# Altium integrated library NSC Switcher.IntLib: 889 symbols (part 17 of 23)
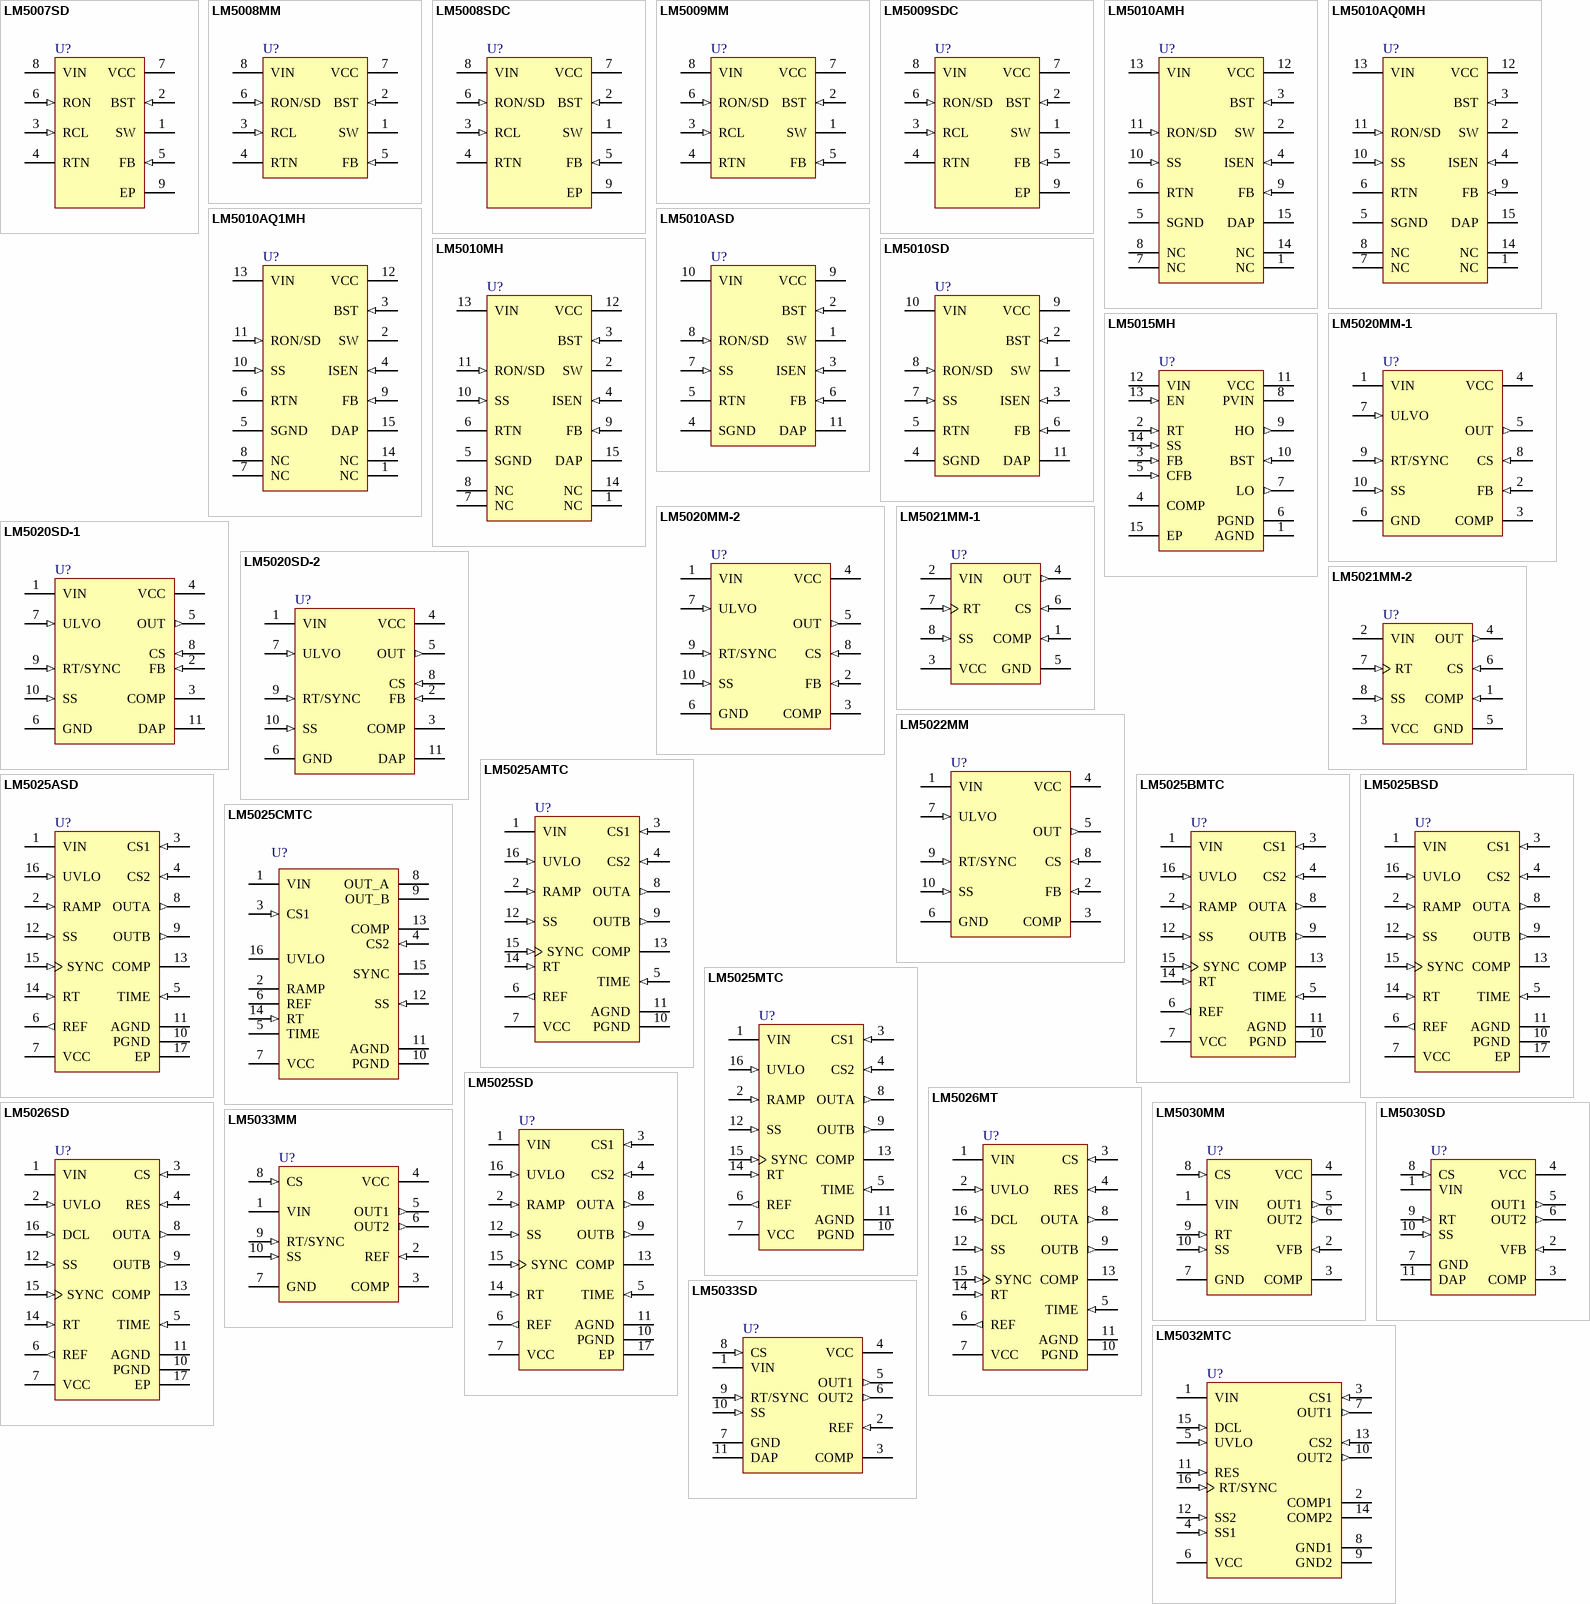
[diagram p43: symbols LM5007SD to LM5033SD]

## LM5010AMH
designator U?
High Voltage 1A Step Down Switching Regulator; PartNumber: LM5010AMH; Manufacturer: National Semiconductor; CompType: Switcher; PackageTopMarking: NSUZXYTT*L5010*AMH; Published: 4-Dec-2008; DatasheetVersion: Dec-2008; PackageVersion: revA, Feb-2003; PackageReference: MXA14A; Publisher: Altium Limited; PackageDescription: Molded TSSOP, JEDEC, Exposed Pad, 5.0 x 4.4 x 0.9mm Body, 14 Lead, 0.65mm Pitch; RoHS: Y; PinCount: 14; DigiKeyPartNumber: LM5010AMH-ND; Code_JEDEC: MO-153-ABT-1; ComponentLink1Description: LM5010A Datasheet; ComponentLink1URL: http://www.national.com/ds/LM/LM5010A.pdf; ComponentLink2Description: LM5010A Web Page; ComponentLink2URL: http://www.national.com/pf/LM/LM5010A.html; ComponentLink3Description: MXA14A Package Drawing; ComponentLink3URL: http://www.national.com/packaging/folders/mxa14a.html
footprint MXA14A_N (TSOP, 14-Leads, Body 5x4.4mm, Pitch 0.65mm, Exposed Pad, IPC Medium Density)
footprint MXA14A_L (TSOP, 14-Leads, Body 5x4.4mm, Pitch 0.65mm, Exposed Pad, IPC High Density)
footprint MXA14A_M (TSOP, 14-Leads, Body 5x4.4mm, Pitch 0.65mm, Exposed Pad, IPC Low Density)
pins: 1 NC, 2 SW (power), 3 BST (in), 4 ISEN (in), 5 SGND (power), 6 RTN (power), 7 NC, 8 NC, 9 FB (in), 10 SS (in), 11 RON/SD (in), 12 VCC (power), 13 VIN (power), 14 NC, 15 DAP (power)

## LM5010AQ0MH
designator U?
High Voltage 1A Step Down Switching Regulator; PartNumber: LM5010AQ0MH; Manufacturer: National Semiconductor; CompType: Switcher; PackageTopMarking: NSUZXYTT*L5010A*Q0MH; PowerWise: N; Published: 29-May-2009; DatasheetVersion: Dec-2008; PackageVersion: revA, Feb-2003; PackageReference: MXA14A; Publisher: Altium Limited; PackageDescription: Molded TSSOP, JEDEC, Exposed Pad, 5.0 x 4.4 x 0.9mm Body, 14 Lead, 0.65mm Pitch; RoHS: Y; PinCount: 14; DigiKeyPartNumber: LM5010AQ0MH-ND; Code_JEDEC: MO-153-ABT-1; ComponentLink1Description: LM5010A Datasheet; ComponentLink1URL: http://www.national.com/ds/LM/LM5010A.pdf; ComponentLink2Description: LM5010A Web Page; ComponentLink2URL: http://www.national.com/pf/LM/LM5010A.html; ComponentLink3Description: MXA14A Package Page; ComponentLink3URL: http://www.national.com/packaging/folders/mxa14a.html
footprint MXA14A_N (TSOP, 14-Leads, Body 5x4.4mm, Pitch 0.65mm, Exposed Pad, IPC Medium Density)
footprint MXA14A_L (TSOP, 14-Leads, Body 5x4.4mm, Pitch 0.65mm, Exposed Pad, IPC High Density)
footprint MXA14A_M (TSOP, 14-Leads, Body 5x4.4mm, Pitch 0.65mm, Exposed Pad, IPC Low Density)
pins: 1 NC, 2 SW (power), 3 BST (in), 4 ISEN (in), 5 SGND (power), 6 RTN (power), 7 NC, 8 NC, 9 FB (in), 10 SS (in), 11 RON/SD (in), 12 VCC (power), 13 VIN (power), 14 NC, 15 DAP (power)

## LM5010AQ1MH
designator U?
High Voltage 1A Step Down Switching Regulator; PartNumber: LM5010AQ1MH; Manufacturer: National Semiconductor; CompType: Switcher; PackageTopMarking: NSUZXYTT*L5010A*Q1MH; PowerWise: N; Published: 29-May-2009; DatasheetVersion: Dec-2008; PackageVersion: revA, Feb-2003; PackageReference: MXA14A; Publisher: Altium Limited; PackageDescription: Molded TSSOP, JEDEC, Exposed Pad, 5.0 x 4.4 x 0.9mm Body, 14 Lead, 0.65mm Pitch; RoHS: Y; PinCount: 14; DigiKeyPartNumber: LM5010AQ1MH-ND; Code_JEDEC: MO-153-ABT-1; ComponentLink1Description: LM5010A Datasheet; ComponentLink1URL: http://www.national.com/ds/LM/LM5010A.pdf; ComponentLink2Description: LM5010A Web Page; ComponentLink2URL: http://www.national.com/pf/LM/LM5010A.html; ComponentLink3Description: MXA14A Package Page; ComponentLink3URL: http://www.national.com/packaging/folders/mxa14a.html
footprint MXA14A_N (TSOP, 14-Leads, Body 5x4.4mm, Pitch 0.65mm, Exposed Pad, IPC Medium Density)
footprint MXA14A_L (TSOP, 14-Leads, Body 5x4.4mm, Pitch 0.65mm, Exposed Pad, IPC High Density)
footprint MXA14A_M (TSOP, 14-Leads, Body 5x4.4mm, Pitch 0.65mm, Exposed Pad, IPC Low Density)
pins: 1 NC, 2 SW (power), 3 BST (in), 4 ISEN (in), 5 SGND (power), 6 RTN (power), 7 NC, 8 NC, 9 FB (in), 10 SS (in), 11 RON/SD (in), 12 VCC (power), 13 VIN (power), 14 NC, 15 DAP (power)

## LM5010ASD
designator U?
High Voltage 1A Step Down Switching Regulator; PartNumber: LM5010ASD; Manufacturer: National Semiconductor; CompType: Switcher; PackageTopMarking: NS*UZXYTT*L00065B; Published: 4-Dec-2008; DatasheetVersion: Dec-2008; PackageVersion: revA, May-2003; PackageReference: SDC10A; Publisher: Altium Limited; PackageDescription: LLP, Plastic, Dual, 4 x 4 x 0.8mm Body, 10 Lead, 0.8mm Pitch, No Pullback; RoHS: O; PinCount: 10; DigiKeyPartNumber: LM5010ASDCT-ND; ComponentLink1Description: LM5010A Datasheet; ComponentLink1URL: http://www.national.com/ds/LM/LM5010A.pdf; ComponentLink2Description: LM5010A Web Page; ComponentLink2URL: http://www.national.com/pf/LM/LM5010A.html; ComponentLink3Description: SDC10A Package Drawing; ComponentLink3URL: http://www.national.com/packaging/folders/sdc10a.html
footprint SDC10A (SON, 10-Leads, Body 4x4 mm, Pitch 0.8mm, NSC Recommended)
pins: 1 SW (power), 2 BST (in), 3 ISEN (in), 4 SGND (power), 5 RTN (power), 6 FB (in), 7 SS (in), 8 RON/SD (in), 9 VCC (power), 10 VIN (power), 11 DAP (power)

## LM5010MH
designator U?
High Voltage 1A Step Down Switching Regulator; PartNumber: LM5010MH; Manufacturer: National Semiconductor; CompType: Switcher; PackageTopMarking: NSUZXYTT*L5010*MH; Published: 4-Dec-2008; DatasheetVersion: Feb-2008; PackageVersion: revA, Feb-2003; PackageReference: MXA14A; Publisher: Altium Limited; PackageDescription: Molded TSSOP, JEDEC, Exposed Pad, 5.0 x 4.4 x 0.9mm Body, 14 Lead, 0.65mm Pitch; RoHS: Y; PinCount: 14; DigiKeyPartNumber: LM5010MH-ND; Code_JEDEC: MO-153-ABT-1; ComponentLink1Description: LM5010 Datasheet; ComponentLink1URL: http://www.national.com/ds/LM/LM5010.pdf; ComponentLink2Description: LM5010 Web Page; ComponentLink2URL: http://www.national.com/pf/LM/LM5010.html; ComponentLink3Description: MXA14A Package Drawing; ComponentLink3URL: http://www.national.com/packaging/folders/mxa14a.html
footprint MXA14A_N (TSOP, 14-Leads, Body 5x4.4mm, Pitch 0.65mm, Exposed Pad, IPC Medium Density)
footprint MXA14A_L (TSOP, 14-Leads, Body 5x4.4mm, Pitch 0.65mm, Exposed Pad, IPC High Density)
footprint MXA14A_M (TSOP, 14-Leads, Body 5x4.4mm, Pitch 0.65mm, Exposed Pad, IPC Low Density)
pins: 1 NC, 2 SW (power), 3 BST (in), 4 ISEN (in), 5 SGND (power), 6 RTN (power), 7 NC, 8 NC, 9 FB (in), 10 SS (in), 11 RON/SD (in), 12 VCC (power), 13 VIN (power), 14 NC, 15 DAP (power)

## LM5010SD
designator U?
High Voltage 1A Step Down Switching Regulator; PartNumber: LM5010SD; Manufacturer: National Semiconductor; CompType: Switcher; PackageTopMarking: NS*UZXYTT*L00057B; Published: 4-Dec-2008; DatasheetVersion: Feb-2008; PackageVersion: revA, May-2003; PackageReference: SDC10A; Publisher: Altium Limited; PackageDescription: LLP, Plastic, Dual, 4 x 4 x 0.8mm Body, 10 Lead, 0.8mm Pitch, No Pullback; RoHS: O; PinCount: 10; DigiKeyPartNumber: LM5010SDCT-ND; ComponentLink1Description: LM5010 Datasheet; ComponentLink1URL: http://www.national.com/ds/LM/LM5010.pdf; ComponentLink2Description: LM5010 Web Page; ComponentLink2URL: http://www.national.com/pf/LM/LM5010.html; ComponentLink3Description: SDC10A Package Drawing; ComponentLink3URL: http://www.national.com/packaging/folders/sdc10a.html
footprint SDC10A (SON, 10-Leads, Body 4x4 mm, Pitch 0.8mm, NSC Recommended)
pins: 1 SW (power), 2 BST (in), 3 ISEN (in), 4 SGND (power), 5 RTN (power), 6 FB (in), 7 SS (in), 8 RON/SD (in), 9 VCC (power), 10 VIN (power), 11 DAP (power)

## LM5015MH
designator U?
High Voltage Monolithic Two-Switch Forward DC-DC Regulator; PartNumber: LM5015MH; Manufacturer: National Semiconductor; CompType: Switcher; PackageTopMarking: NSUZXYTT*LM5015*MH; Published: 4-Dec-2008; DatasheetVersion: Dec-2007; PackageVersion: revA, Feb-2003; PackageReference: MXA14A; Publisher: Altium Limited; PackageDescription: Molded TSSOP, JEDEC, Exposed Pad, 5.0 x 4.4 x 0.9mm Body, 14 Lead, 0.65mm Pitch; RoHS: Y; PinCount: 14; DigiKeyPartNumber: LM5015MH-ND; Code_JEDEC: MO-153-ABT-1; ComponentLink1Description: LM5015 Datasheet; ComponentLink1URL: http://www.national.com/ds/LM/LM5015.pdf; ComponentLink2Description: LM5015 Web Page; ComponentLink2URL: http://www.national.com/pf/LM/LM5015.html; ComponentLink3Description: MXA14A Package Drawing; ComponentLink3URL: http://www.national.com/packaging/folders/mxa14a.html
footprint MXA14A_N (TSOP, 14-Leads, Body 5x4.4mm, Pitch 0.65mm, Exposed Pad, IPC Medium Density)
footprint MXA14A_L (TSOP, 14-Leads, Body 5x4.4mm, Pitch 0.65mm, Exposed Pad, IPC High Density)
footprint MXA14A_M (TSOP, 14-Leads, Body 5x4.4mm, Pitch 0.65mm, Exposed Pad, IPC Low Density)
pins: 1 AGND (power), 2 RT (in), 3 FB (in), 4 COMP, 5 CFB (in), 6 PGND (power), 7 LO (out), 8 PVIN (power), 9 HO (out), 10 BST (in), 11 VCC (power), 12 VIN (power), 13 EN (in), 14 SS (in), 15 EP (power)

## LM5020MM-1
designator U?
100V Current Mode PWM Controller; PartNumber: LM5020MM-1; Manufacturer: National Semiconductor; CompType: Switcher; PackageTopMarking: ZXTT*SBLB; Published: 4-Dec-2008; DatasheetVersion: Apr-2006; PackageVersion: revB, Jul-2003; PackageReference: MUB10A; Publisher: Altium Limited; PackageDescription: Mini-SO, Molded, .118 x .118 x .034in Body, 10 Lead, .0197in Pitch; RoHS: O; PinCount: 10; DigiKeyPartNumber: LM5020MM-1CT-ND; Code_JEDEC: MO-187-BA; ComponentLink1Description: LM5020 Datasheet; ComponentLink1URL: http://www.national.com/ds/LM/LM5020.pdf; ComponentLink2Description: LM5020 Web Page; ComponentLink2URL: http://www.national.com/pf/LM/LM5020.html; ComponentLink3Description: MUB10A Package Drawing; ComponentLink3URL: http://www.national.com/packaging/folders/mub10a.html
footprint MUB10A_N (TSSOP, 10-Leads, Body 3x3mm, Pitch 0.5mm, IPC Medium Density)
footprint MUB10A_L (TSSOP, 10-Leads, Body 3x3mm, Pitch 0.5mm, IPC High Density)
footprint MUB10A_M (TSSOP, 10-Leads, Body 3x3mm, Pitch 0.5mm, IPC Low Density)
pins: 1 VIN (power), 2 FB (in), 3 COMP, 4 VCC (power), 5 OUT (out), 6 GND (power), 7 ULVO (in), 8 CS (in), 9 RT/SYNC (in), 10 SS (in)

## LM5020MM-2
designator U?
100V Current Mode PWM Controller; PartNumber: LM5020MM-2; Manufacturer: National Semiconductor; CompType: Switcher; PackageTopMarking: ZXTT*SBNB; Published: 4-Dec-2008; DatasheetVersion: Apr-2006; PackageVersion: revB, Jul-2003; PackageReference: MUB10A; Publisher: Altium Limited; PackageDescription: Mini-SO, Molded, .118 x .118 x .034in Body, 10 Lead, .0197in Pitch; RoHS: O; PinCount: 10; DigiKeyPartNumber: LM5020MM-2CT-ND; Code_JEDEC: MO-187-BA; ComponentLink1Description: LM5020 Datasheet; ComponentLink1URL: http://www.national.com/ds/LM/LM5020.pdf; ComponentLink2Description: LM5020 Web Page; ComponentLink2URL: http://www.national.com/pf/LM/LM5020.html; ComponentLink3Description: MUB10A Package Drawing; ComponentLink3URL: http://www.national.com/packaging/folders/mub10a.html
footprint MUB10A_N (TSSOP, 10-Leads, Body 3x3mm, Pitch 0.5mm, IPC Medium Density)
footprint MUB10A_L (TSSOP, 10-Leads, Body 3x3mm, Pitch 0.5mm, IPC High Density)
footprint MUB10A_M (TSSOP, 10-Leads, Body 3x3mm, Pitch 0.5mm, IPC Low Density)
pins: 1 VIN (power), 2 FB (in), 3 COMP, 4 VCC (power), 5 OUT (out), 6 GND (power), 7 ULVO (in), 8 CS (in), 9 RT/SYNC (in), 10 SS (in)

## LM5020SD-1
designator U?
100V Current Mode PWM Controller; PartNumber: LM5020SD-1; Manufacturer: National Semiconductor; CompType: Switcher; PackageTopMarking: NS*UZXYTT*5020-1; Published: 4-Dec-2008; DatasheetVersion: Apr-2006; PackageVersion: revA, May-2003; PackageReference: SDC10A; Publisher: Altium Limited; PackageDescription: LLP, Plastic, Dual, 4 x 4 x 0.8mm Body, 10 Lead, 0.8mm Pitch, No Pullback; RoHS: Y; PinCount: 10; DigiKeyPartNumber: LM5020SD-1CT-ND; ComponentLink1Description: LM5020 Datasheet; ComponentLink1URL: http://www.national.com/ds/LM/LM5020.pdf; ComponentLink2Description: LM5020 Web Page; ComponentLink2URL: http://www.national.com/pf/LM/LM5020.html; ComponentLink3Description: SDC10A Package Drawing; ComponentLink3URL: http://www.national.com/packaging/folders/sdc10a.html
footprint SDC10A (SON, 10-Leads, Body 4x4 mm, Pitch 0.8mm, NSC Recommended)
pins: 1 VIN (power), 2 FB (in), 3 COMP, 4 VCC (power), 5 OUT (out), 6 GND (power), 7 ULVO (in), 8 CS (in), 9 RT/SYNC (in), 10 SS (in), 11 DAP (power)

## LM5020SD-2
designator U?
100V Current Mode PWM Controller; PartNumber: LM5020SD-2; Manufacturer: National Semiconductor; CompType: Switcher; PackageTopMarking: NS*UZXYTT*5020-2; Published: 4-Dec-2008; DatasheetVersion: Apr-2006; PackageVersion: revA, May-2003; PackageReference: SDC10A; Publisher: Altium Limited; PackageDescription: LLP, Plastic, Dual, 4 x 4 x 0.8mm Body, 10 Lead, 0.8mm Pitch, No Pullback; RoHS: Y; PinCount: 10; DigiKeyPartNumber: LM5020SD-2CT-ND; ComponentLink1Description: LM5020 Datasheet; ComponentLink1URL: http://www.national.com/ds/LM/LM5020.pdf; ComponentLink2Description: LM5020 Web Page; ComponentLink2URL: http://www.national.com/pf/LM/LM5020.html; ComponentLink3Description: SDC10A Package Drawing; ComponentLink3URL: http://www.national.com/packaging/folders/sdc10a.html
footprint SDC10A (SON, 10-Leads, Body 4x4 mm, Pitch 0.8mm, NSC Recommended)
pins: 1 VIN (power), 2 FB (in), 3 COMP, 4 VCC (power), 5 OUT (out), 6 GND (power), 7 ULVO (in), 8 CS (in), 9 RT/SYNC (in), 10 SS (in), 11 DAP (power)

## LM5021MM-1
designator U?
AC-DC Current Mode PWM Controller; PartNumber: LM5021MM-1; Manufacturer: National Semiconductor; CompType: Switcher; PackageTopMarking: ZXTT*21-1; Published: 4-Dec-2008; DatasheetVersion: Jun-2006; PackageVersion: revF, Apr-2008; PackageReference: MUA08A; Publisher: Altium Limited; PackageDescription: MINI SOIC, .118 x .118 x .034in, 8 Lead, .0256in Pitch; RoHS: Y; PinCount: 8; DigiKeyPartNumber: LM5021MM-1CT-ND; Code_JEDEC: MO-187-AA; ComponentLink1Description: LM5021 Datasheet; ComponentLink1URL: http://www.national.com/ds/LM/LM5021.pdf; ComponentLink2Description: LM5021 Web Page; ComponentLink2URL: http://www.national.com/pf/LM/LM5021.html; ComponentLink3Description: MUA08A Package Drawing; ComponentLink3URL: http://www.national.com/packaging/folders/mua08a.html
footprint MUA08A_N (TSOP, 8-Leads, Body 3x3mm, Pitch 0.65mm, IPC Medium Density)
footprint MUA08A_L (TSOP, 8-Leads, Body 3x3mm, Pitch 0.65mm, IPC High Density)
footprint MUA08A_M (TSOP, 8-Leads, Body 3x3mm, Pitch 0.65mm, IPC Low Density)
pins: 1 COMP (in), 2 VIN (power), 3 VCC (power), 4 OUT (out), 5 GND (power), 6 CS (in), 7 RT (in), 8 SS (in)

## LM5021MM-2
designator U?
AC-DC Current Mode PWM Controller; PartNumber: LM5021MM-2; Manufacturer: National Semiconductor; CompType: Switcher; PackageTopMarking: ZXTT*21-2; Published: 4-Dec-2008; DatasheetVersion: Jun-2006; PackageVersion: revF, Apr-2008; PackageReference: MUA08A; Publisher: Altium Limited; PackageDescription: MINI SOIC, .118 x .118 x .034in, 8 Lead, .0256in Pitch; RoHS: Y; PinCount: 8; DigiKeyPartNumber: LM5021MM-2CT-ND; Code_JEDEC: MO-187-AA; ComponentLink1Description: LM5021 Datasheet; ComponentLink1URL: http://www.national.com/ds/LM/LM5021.pdf; ComponentLink2Description: LM5021 Web Page; ComponentLink2URL: http://www.national.com/pf/LM/LM5021.html; ComponentLink3Description: MUA08A Package Drawing; ComponentLink3URL: http://www.national.com/packaging/folders/mua08a.html
footprint MUA08A_N (TSOP, 8-Leads, Body 3x3mm, Pitch 0.65mm, IPC Medium Density)
footprint MUA08A_L (TSOP, 8-Leads, Body 3x3mm, Pitch 0.65mm, IPC High Density)
footprint MUA08A_M (TSOP, 8-Leads, Body 3x3mm, Pitch 0.65mm, IPC Low Density)
pins: 1 COMP (in), 2 VIN (power), 3 VCC (power), 4 OUT (out), 5 GND (power), 6 CS (in), 7 RT (in), 8 SS (in)

## LM5022MM
designator U?
60V Low Side  Controller for Boost and SEPIC; PartNumber: LM5022MM; Manufacturer: National Semiconductor; CompType: Switcher; PackageTopMarking: ZXTT*5022; Published: 4-Dec-2008; DatasheetVersion: Aug-2007; PackageVersion: revB, Jul-2003; PackageReference: MUB10A; Publisher: Altium Limited; PackageDescription: Mini-SO, Molded, .118 x .118 x .034in Body, 10 Lead, .0197in Pitch; RoHS: O; PinCount: 10; DigiKeyPartNumber: LM5022MMCT-ND; Code_JEDEC: MO-187-BA; ComponentLink1Description: LM5022 Datasheet; ComponentLink1URL: http://www.national.com/ds/LM/LM5022.pdf; ComponentLink2Description: LM5022 Web Page; ComponentLink2URL: http://www.national.com/pf/LM/LM5022.html; ComponentLink3Description: MUB10A Package Drawing; ComponentLink3URL: http://www.national.com/packaging/folders/mub10a.html
footprint MUB10A_N (TSSOP, 10-Leads, Body 3x3mm, Pitch 0.5mm, IPC Medium Density)
footprint MUB10A_L (TSSOP, 10-Leads, Body 3x3mm, Pitch 0.5mm, IPC High Density)
footprint MUB10A_M (TSSOP, 10-Leads, Body 3x3mm, Pitch 0.5mm, IPC Low Density)
pins: 1 VIN (power), 2 FB (in), 3 COMP, 4 VCC (power), 5 OUT (out), 6 GND (power), 7 ULVO (in), 8 CS (in), 9 RT/SYNC (in), 10 SS (in)

## LM5025AMTC
designator U?
Active Clamp Voltage Mode PWM Controller; PartNumber: LM5025AMTC; Manufacturer: National Semiconductor; CompType: Switcher; PackageTopMarking: NSUZXYTT*L5025A*MTC; Published: 4-Dec-2008; DatasheetVersion: Dec-2004; PackageVersion: revD, Jun-2003; PackageReference: MTC16; Publisher: Altium Limited; PackageDescription: Molded TSSOP, Jedec, 5 x 4.4 x 0.9mm Body, 16 Lead, 0.65mm Pitch; RoHS: Y; PinCount: 16; DigiKeyPartNumber: LM5025AMTC-ND; Code_JEDEC: MO-153-AB; ComponentLink1Description: LM5025A Datasheet; ComponentLink1URL: http://www.national.com/ds/LM/LM5025A.pdf; ComponentLink2Description: LM5025A Web Page; ComponentLink2URL: http://www.national.com/pf/LM/LM5025A.html; ComponentLink3Description: MTC16 Package Drawing; ComponentLink3URL: http://www.national.com/packaging/folders/mtc16.html
footprint MTC16_N (TSOP, 16-Leads, Body 5x4.4mm, Pitch 0.65mm, IPC Medium Density)
footprint MTC16_L (TSOP, 16-Leads, Body 5x4.4mm, Pitch 0.65mm, IPC High Density)
footprint MTC16_M (TSOP, 16-Leads, Body 5x4.4mm, Pitch 0.65mm, IPC Low Density)
pins: 1 VIN (power), 2 RAMP (in), 3 CS1 (in), 4 CS2 (in), 5 TIME (in), 6 REF (out), 7 VCC (power), 8 OUTA (out), 9 OUTB (out), 10 PGND (power), 11 AGND (power), 12 SS (in), 13 COMP, 14 RT (in), 15 SYNC (in), 16 UVLO (in)

## LM5025ASD
designator U?
Active Clamp Voltage Mode PWM Controller; PartNumber: LM5025ASD; Manufacturer: National Semiconductor; CompType: Switcher; PackageTopMarking: NS*UZXYTT*5025ASD; Published: 4-Dec-2008; DatasheetVersion: Dec-2004; PackageVersion: revA, May-2003; PackageReference: SDA16A; Publisher: Altium Limited; PackageDescription: LLP, Plastic, Dual, 5 x 5 x 0.8mm Body,16 Lead, 0.5mm Pitch, No Pullback; RoHS: Y; PinCount: 16; DigiKeyPartNumber: LM5025ASDCT-ND; ComponentLink1Description: LM5025A Datasheet; ComponentLink1URL: http://www.national.com/ds/LM/LM5025A.pdf; ComponentLink2Description: LM5025A Web Page; ComponentLink2URL: http://www.national.com/pf/LM/LM5025A.html; ComponentLink3Description: SDA16A Package Drawing; ComponentLink3URL: http://www.national.com/packaging/folders/sda16a.html
footprint SDA16A (SON, 16-Leads, Body 5x5mm, Pitch 0.5mm, NSC Recommended)
pins: 1 VIN (power), 2 RAMP (in), 3 CS1 (in), 4 CS2 (in), 5 TIME (in), 6 REF (out), 7 VCC (power), 8 OUTA (out), 9 OUTB (out), 10 PGND (power), 11 AGND (power), 12 SS (in), 13 COMP, 14 RT (in), 15 SYNC (in), 16 UVLO (in), 17 EP (power)

## LM5025BMTC
designator U?
Active Clamp Voltage Mode PWM Controller; PartNumber: LM5025BMTC; Manufacturer: National Semiconductor; CompType: Switcher; PackageTopMarking: NSUZXYTT*L5025B*MTC; Published: 4-Dec-2008; DatasheetVersion: Mar-2006; PackageVersion: revD, Jun-2003; PackageReference: MTC16; Publisher: Altium Limited; PackageDescription: Molded TSSOP, Jedec, 5 x 4.4 x 0.9mm Body, 16 Lead, 0.65mm Pitch; RoHS: Y; PinCount: 16; DigiKeyPartNumber: LM5025BMTC-ND; Code_JEDEC: MO-153-AB; ComponentLink1Description: LM5025B Datasheet; ComponentLink1URL: http://www.national.com/ds/LM/LM5025B.pdf; ComponentLink2Description: LM5025B Web Page; ComponentLink2URL: http://www.national.com/pf/LM/LM5025B.html; ComponentLink3Description: MTC16 Package Drawing; ComponentLink3URL: http://www.national.com/packaging/folders/mtc16.html
footprint MTC16_N (TSOP, 16-Leads, Body 5x4.4mm, Pitch 0.65mm, IPC Medium Density)
footprint MTC16_L (TSOP, 16-Leads, Body 5x4.4mm, Pitch 0.65mm, IPC High Density)
footprint MTC16_M (TSOP, 16-Leads, Body 5x4.4mm, Pitch 0.65mm, IPC Low Density)
pins: 1 VIN (power), 2 RAMP (in), 3 CS1 (in), 4 CS2 (in), 5 TIME (in), 6 REF (out), 7 VCC (power), 8 OUTA (out), 9 OUTB (out), 10 PGND (power), 11 AGND (power), 12 SS (in), 13 COMP, 14 RT (in), 15 SYNC (in), 16 UVLO (in)

## LM5025BSD
designator U?
Active Clamp Voltage Mode PWM Controller; PartNumber: LM5025BSD; Manufacturer: National Semiconductor; CompType: Switcher; PackageTopMarking: NS*UZXYTT*5025BSD; Published: 4-Dec-2008; DatasheetVersion: Mar-2006; PackageVersion: revA, May-2003; PackageReference: SDA16A; Publisher: Altium Limited; PackageDescription: LLP, Plastic, Dual, 5 x 5 x 0.8mm Body,16 Lead, 0.5mm Pitch, No Pullback; RoHS: O; PinCount: 16; DigiKeyPartNumber: LM5025BSDCT-ND; ComponentLink1Description: LM5025B Datasheet; ComponentLink1URL: http://www.national.com/ds/LM/LM5025B.pdf; ComponentLink2Description: LM5025B Web Page; ComponentLink2URL: http://www.national.com/pf/LM/LM5025B.html; ComponentLink3Description: SDA16A Package Drawing; ComponentLink3URL: http://www.national.com/packaging/folders/sda16a.html
footprint SDA16A (SON, 16-Leads, Body 5x5mm, Pitch 0.5mm, NSC Recommended)
pins: 1 VIN (power), 2 RAMP (in), 3 CS1 (in), 4 CS2 (in), 5 TIME (in), 6 REF (out), 7 VCC (power), 8 OUTA (out), 9 OUTB (out), 10 PGND (power), 11 AGND (power), 12 SS (in), 13 COMP, 14 RT (in), 15 SYNC (in), 16 UVLO (in), 17 EP (power)

## LM5025CMTC
designator U?
Active Clamp Voltage Mode PWM Controller; PartNumber: LM5025CMTC; Manufacturer: National Semiconductor; CompType: Switcher; PackageTopMarking: NSUZXYTT*L5025C*MTC; PowerWise: Y; Published: 4-Dec-2008; DatasheetVersion: Sep-2008; PackageVersion: revD, Jun-2003; PackageReference: MTC16; Publisher: Altium Limited; PackageDescription: Molded TSSOP, Jedec, 5 x 4.4 x 0.9mm Body, 16 Lead, 0.65mm Pitch; RoHS: Y; PinCount: 16; Code_JEDEC: MO-153-AB; ComponentLink1Description: LM5025C Datasheet; ComponentLink1URL: http://www.national.com/ds/LM/LM5025C.pdf; ComponentLink2Description: LM5025C Web Page; ComponentLink2URL: http://www.national.com/pf/LM/LM5025C.html; ComponentLink3Description: MTC16 Package Drawing; ComponentLink3URL: http://www.national.com/packaging/folders/mtc16.html
footprint MTC16_N (TSOP, 16-Leads, Body 5x4.4mm, Pitch 0.65mm, IPC Medium Density)
footprint MTC16_L (TSOP, 16-Leads, Body 5x4.4mm, Pitch 0.65mm, IPC High Density)
footprint MTC16_M (TSOP, 16-Leads, Body 5x4.4mm, Pitch 0.65mm, IPC Low Density)
pins: 1 VIN (power), 2 RAMP, 3 CS1 (in), 4 CS2 (in), 5 TIME, 6 REF (power), 7 VCC (power), 8 OUT_A (power), 9 OUT_B (power), 10 PGND (power), 11 AGND (power), 12 SS (in), 13 COMP, 14 RT (in), 15 SYNC, 16 UVLO

## LM5025MTC
designator U?
Active Clamp Voltage Mode PWM Controller; PartNumber: LM5025MTC; Manufacturer: National Semiconductor; CompType: Switcher; PackageTopMarking: NSZXYTT*LM5025*MTC; Published: 4-Dec-2008; DatasheetVersion: Mar-2004; PackageVersion: revD, Jun-2003; PackageReference: MTC16; Publisher: Altium Limited; PackageDescription: Molded TSSOP, Jedec, 5 x 4.4 x 0.9mm Body, 16 Lead, 0.65mm Pitch; RoHS: Y; PinCount: 16; DigiKeyPartNumber: LM5025MTC-ND; Code_JEDEC: MO-153-AB; ComponentLink1Description: LM5025 Datasheet; ComponentLink1URL: http://www.national.com/ds/LM/LM5025.pdf; ComponentLink2Description: LM5025 Web Page; ComponentLink2URL: http://www.national.com/pf/LM/LM5025.html; ComponentLink3Description: MTC16 Package Drawing; ComponentLink3URL: http://www.national.com/packaging/folders/mtc16.html
footprint MTC16_N (TSOP, 16-Leads, Body 5x4.4mm, Pitch 0.65mm, IPC Medium Density)
footprint MTC16_L (TSOP, 16-Leads, Body 5x4.4mm, Pitch 0.65mm, IPC High Density)
footprint MTC16_M (TSOP, 16-Leads, Body 5x4.4mm, Pitch 0.65mm, IPC Low Density)
pins: 1 VIN (power), 2 RAMP (in), 3 CS1 (in), 4 CS2 (in), 5 TIME (in), 6 REF (out), 7 VCC (power), 8 OUTA (out), 9 OUTB (out), 10 PGND (power), 11 AGND (power), 12 SS (in), 13 COMP, 14 RT (in), 15 SYNC (in), 16 UVLO (in)

## LM5025SD
designator U?
Active Clamp Voltage Mode PWM Controller; PartNumber: LM5025SD; Manufacturer: National Semiconductor; CompType: Switcher; PackageTopMarking: NS*UZXYTT*5025SD; Published: 4-Dec-2008; DatasheetVersion: Mar-2004; PackageVersion: revA, May-2003; PackageReference: SDA16A; Publisher: Altium Limited; PackageDescription: LLP, Plastic, Dual, 5 x 5 x 0.8mm Body,16 Lead, 0.5mm Pitch, No Pullback; RoHS: Y; PinCount: 16; DigiKeyPartNumber: LM5025SDCT-ND; ComponentLink1Description: LM5025 Datasheet; ComponentLink1URL: http://www.national.com/ds/LM/LM5025.pdf; ComponentLink2Description: LM5025 Web Page; ComponentLink2URL: http://www.national.com/pf/LM/LM5025.html; ComponentLink3Description: SDA16A Package Drawing; ComponentLink3URL: http://www.national.com/packaging/folders/sda16a.html
footprint SDA16A (SON, 16-Leads, Body 5x5mm, Pitch 0.5mm, NSC Recommended)
pins: 1 VIN (power), 2 RAMP (in), 3 CS1 (in), 4 CS2 (in), 5 TIME (in), 6 REF (out), 7 VCC (power), 8 OUTA (out), 9 OUTB (out), 10 PGND (power), 11 AGND (power), 12 SS (in), 13 COMP, 14 RT (in), 15 SYNC (in), 16 UVLO (in), 17 EP (power)

## LM5026MT
designator U?
Active Clamp Current Mode PWM Controller; PartNumber: LM5026MT; Manufacturer: National Semiconductor; CompType: Switcher; PackageTopMarking: NSUZXYTT*LM5026*MT; Published: 4-Dec-2008; DatasheetVersion: Jan-2006; PackageVersion: revD, Jun-2003; PackageReference: MTC16; Publisher: Altium Limited; PackageDescription: Molded TSSOP, Jedec, 5 x 4.4 x 0.9mm Body, 16 Lead, 0.65mm Pitch; RoHS: Y; PinCount: 16; DigiKeyPartNumber: LM5026MT-ND; Code_JEDEC: MO-153-AB; ComponentLink1Description: LM5026 Datasheet; ComponentLink1URL: http://www.national.com/ds/LM/LM5026.pdf; ComponentLink2Description: LM5026 Web Page; ComponentLink2URL: http://www.national.com/pf/LM/LM5026.html; ComponentLink3Description: MTC16 Package Drawing; ComponentLink3URL: http://www.national.com/packaging/folders/mtc16.html
footprint MTC16_N (TSOP, 16-Leads, Body 5x4.4mm, Pitch 0.65mm, IPC Medium Density)
footprint MTC16_L (TSOP, 16-Leads, Body 5x4.4mm, Pitch 0.65mm, IPC High Density)
footprint MTC16_M (TSOP, 16-Leads, Body 5x4.4mm, Pitch 0.65mm, IPC Low Density)
pins: 1 VIN (power), 2 UVLO (in), 3 CS (in), 4 RES (in), 5 TIME (in), 6 REF (out), 7 VCC (power), 8 OUTA (out), 9 OUTB (out), 10 PGND (power), 11 AGND (power), 12 SS (in), 13 COMP, 14 RT (in), 15 SYNC (in), 16 DCL (in)

## LM5026SD
designator U?
Active Clamp Current Mode PWM Controller; PartNumber: LM5026SD; Manufacturer: National Semiconductor; CompType: Switcher; PackageTopMarking: NS*UZXYTT*5026SD; Published: 4-Dec-2008; DatasheetVersion: Jan-2006; PackageVersion: revA, May-2003; PackageReference: SDA16A; Publisher: Altium Limited; PackageDescription: LLP, Plastic, Dual, 5 x 5 x 0.8mm Body,16 Lead, 0.5mm Pitch, No Pullback; RoHS: Y; PinCount: 16; DigiKeyPartNumber: LM5026SDCT-ND; ComponentLink1Description: LM5026 Datasheet; ComponentLink1URL: http://www.national.com/ds/LM/LM5026.pdf; ComponentLink2Description: LM5026 Web Page; ComponentLink2URL: http://www.national.com/pf/LM/LM5026.html; ComponentLink3Description: SDA16A Package Drawing; ComponentLink3URL: http://www.national.com/packaging/folders/sda16a.html
footprint SDA16A (SON, 16-Leads, Body 5x5mm, Pitch 0.5mm, NSC Recommended)
pins: 1 VIN (power), 2 UVLO (in), 3 CS (in), 4 RES (in), 5 TIME (in), 6 REF (out), 7 VCC (power), 8 OUTA (out), 9 OUTB (out), 10 PGND (power), 11 AGND (power), 12 SS (in), 13 COMP, 14 RT (in), 15 SYNC (in), 16 DCL (in), 17 EP (power)

## LM5030MM
designator U?
100V Push-Pull Current Mode PWM Controller; PartNumber: LM5030MM; Manufacturer: National Semiconductor; CompType: Switcher; PackageTopMarking: ZXTT*S73B; Published: 4-Dec-2008; DatasheetVersion: Mar-2005; PackageVersion: revB, Jul-2003; PackageReference: MUB10A; Publisher: Altium Limited; PackageDescription: Mini-SO, Molded, .118 x .118 x .034in Body, 10 Lead, .0197in Pitch; RoHS: Y; PinCount: 10; DigiKeyPartNumber: LM5030MMCT-ND; Code_JEDEC: MO-187-BA; ComponentLink1Description: LM5030 Datasheet; ComponentLink1URL: http://www.national.com/ds/LM/LM5030.pdf; ComponentLink2Description: LM5030 Web Page; ComponentLink2URL: http://www.national.com/pf/LM/LM5030.html; ComponentLink3Description: MUB10A Package Drawing; ComponentLink3URL: http://www.national.com/packaging/folders/mub10a.html
footprint MUB10A_N (TSSOP, 10-Leads, Body 3x3mm, Pitch 0.5mm, IPC Medium Density)
footprint MUB10A_L (TSSOP, 10-Leads, Body 3x3mm, Pitch 0.5mm, IPC High Density)
footprint MUB10A_M (TSSOP, 10-Leads, Body 3x3mm, Pitch 0.5mm, IPC Low Density)
pins: 1 VIN (power), 2 VFB (in), 3 COMP, 4 VCC (power), 5 OUT1 (out), 6 OUT2 (out), 7 GND (power), 8 CS (in), 9 RT (in), 10 SS (in)

## LM5030SD
designator U?
100V Push-Pull Current Mode PWM Controller; PartNumber: LM5030SD; Manufacturer: National Semiconductor; CompType: Switcher; PackageTopMarking: NS*UZXYTT*5030SD; Published: 4-Dec-2008; DatasheetVersion: Mar-2005; PackageVersion: revA, May-2003; PackageReference: SDC10A; Publisher: Altium Limited; PackageDescription: LLP, Plastic, Dual, 4 x 4 x 0.8mm Body, 10 Lead, 0.8mm Pitch, No Pullback; RoHS: Y; PinCount: 10; DigiKeyPartNumber: LM5030SDCT-ND; ComponentLink1Description: LM5030 Datasheet; ComponentLink1URL: http://www.national.com/ds/LM/LM5030.pdf; ComponentLink2Description: LM5030 Web Page; ComponentLink2URL: http://www.national.com/pf/LM/LM5030.html; ComponentLink3Description: SDC10A Package Drawing; ComponentLink3URL: http://www.national.com/packaging/folders/sdc10a.html
footprint SDC10A (SON, 10-Leads, Body 4x4 mm, Pitch 0.8mm, NSC Recommended)
pins: 1 VIN (power), 2 VFB (in), 3 COMP, 4 VCC (power), 5 OUT1 (out), 6 OUT2 (out), 7 GND (power), 8 CS (in), 9 RT (in), 10 SS (in), 11 DAP (power)

## LM5032MTC
designator U?
High Voltage Dual Interleaved Current Mode Controller; PartNumber: LM5032MTC; Manufacturer: National Semiconductor; CompType: Switcher; PackageTopMarking: NSUZXYTT*LM5032*MTC; Published: 4-Dec-2008; DatasheetVersion: Mar-2005; PackageVersion: revD, Jun-2003; PackageReference: MTC16; Publisher: Altium Limited; PackageDescription: Molded TSSOP, Jedec, 5 x 4.4 x 0.9mm Body, 16 Lead, 0.65mm Pitch; RoHS: Y; PinCount: 16; DigiKeyPartNumber: LM5032MTC-ND; Code_JEDEC: MO-153-AB; ComponentLink1Description: LM5032 Datasheet; ComponentLink1URL: http://www.national.com/ds/LM/LM5032.pdf; ComponentLink2Description: LM5032 Web Page; ComponentLink2URL: http://www.national.com/pf/LM/LM5032.html; ComponentLink3Description: MTC16 Package Drawing; ComponentLink3URL: http://www.national.com/packaging/folders/mtc16.html
footprint MTC16_N (TSOP, 16-Leads, Body 5x4.4mm, Pitch 0.65mm, IPC Medium Density)
footprint MTC16_L (TSOP, 16-Leads, Body 5x4.4mm, Pitch 0.65mm, IPC High Density)
footprint MTC16_M (TSOP, 16-Leads, Body 5x4.4mm, Pitch 0.65mm, IPC Low Density)
pins: 1 VIN (power), 2 COMP1, 3 CS1 (in), 4 SS1 (in), 5 UVLO (in), 6 VCC (power), 7 OUT1 (out), 8 GND1 (power), 9 GND2 (power), 10 OUT2 (out), 11 RES (in), 12 SS2 (in), 13 CS2 (in), 14 COMP2, 15 DCL (in), 16 RT/SYNC (in)

## LM5033MM
designator U?
100V Push-Pull Voltage Mode PWM Controller; PartNumber: LM5033MM; Manufacturer: National Semiconductor; CompType: Switcher; PackageTopMarking: ZXTT*SCVB; Published: 4-Dec-2008; DatasheetVersion: Feb-2005; PackageVersion: revB, Jul-2003; PackageReference: MUB10A; Publisher: Altium Limited; PackageDescription: Mini-SO, Molded, .118 x .118 x .034in Body, 10 Lead, .0197in Pitch; RoHS: Y; PinCount: 10; DigiKeyPartNumber: LM5033MMCT-ND; Code_JEDEC: MO-187-BA; ComponentLink1Description: LM5033 Datasheet; ComponentLink1URL: http://www.national.com/ds/LM/LM5033.pdf; ComponentLink2Description: LM5033 Web Page; ComponentLink2URL: http://www.national.com/pf/LM/LM5033.html; ComponentLink3Description: MUB10A Package Drawing; ComponentLink3URL: http://www.national.com/packaging/folders/mub10a.html
footprint MUB10A_N (TSSOP, 10-Leads, Body 3x3mm, Pitch 0.5mm, IPC Medium Density)
footprint MUB10A_L (TSSOP, 10-Leads, Body 3x3mm, Pitch 0.5mm, IPC High Density)
footprint MUB10A_M (TSSOP, 10-Leads, Body 3x3mm, Pitch 0.5mm, IPC Low Density)
pins: 1 VIN (power), 2 REF (in), 3 COMP, 4 VCC (power), 5 OUT1 (out), 6 OUT2 (out), 7 GND (power), 8 CS (in), 9 RT/SYNC (in), 10 SS (in)

## LM5033SD
designator U?
100V Push-Pull Voltage Mode PWM Controller; PartNumber: LM5033SD; Manufacturer: National Semiconductor; CompType: Switcher; PackageTopMarking: NS*UZXYTT*5033SD; Published: 4-Dec-2008; DatasheetVersion: Feb-2005; PackageVersion: revA, May-2003; PackageReference: SDC10A; Publisher: Altium Limited; PackageDescription: LLP, Plastic, Dual, 4 x 4 x 0.8mm Body, 10 Lead, 0.8mm Pitch, No Pullback; RoHS: Y; PinCount: 10; DigiKeyPartNumber: LM5033SDCT-ND; ComponentLink1Description: LM5033 Datasheet; ComponentLink1URL: http://www.national.com/ds/LM/LM5033.pdf; ComponentLink2Description: LM5033 Web Page; ComponentLink2URL: http://www.national.com/pf/LM/LM5033.html; ComponentLink3Description: SDC10A Package Drawing; ComponentLink3URL: http://www.national.com/packaging/folders/sdc10a.html
footprint SDC10A (SON, 10-Leads, Body 4x4 mm, Pitch 0.8mm, NSC Recommended)
pins: 1 VIN (power), 2 REF (in), 3 COMP, 4 VCC (power), 5 OUT1 (out), 6 OUT2 (out), 7 GND (power), 8 CS (in), 9 RT/SYNC (in), 10 SS (in), 11 DAP (power)

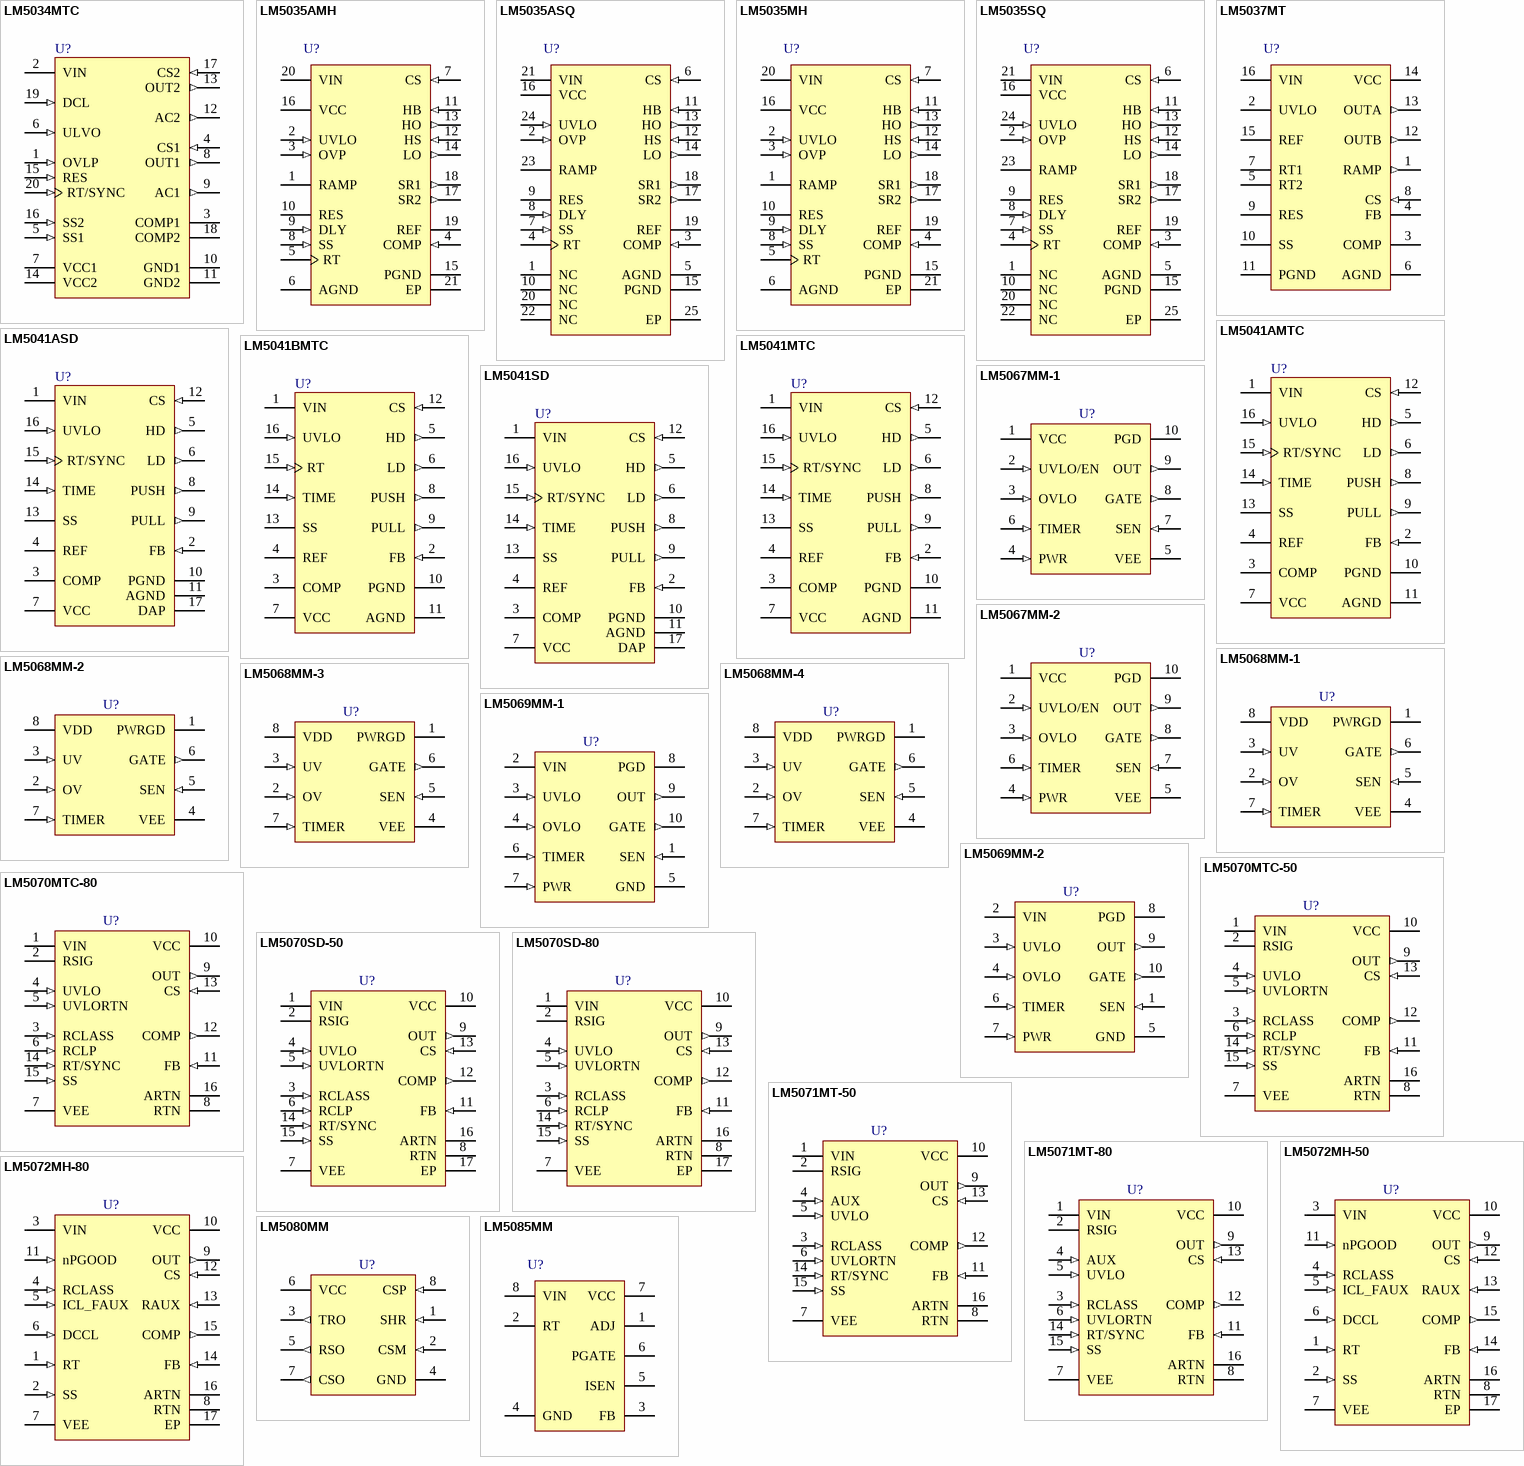
[diagram p20: symbols LM5034MTC to LM5085MM]

## LM5034MTC
designator U?
High Voltage Dual Interleaved Current Mode Controller with Active Clamp; PartNumber: LM5034MTC; Manufacturer: National Semiconductor; CompType: Switcher; PackageTopMarking: NSUZXYTT*LM5034*MT; Published: 4-Dec-2008; DatasheetVersion: Feb-2005; PackageVersion: revE, Mar-2003; PackageReference: MTC20; Publisher: Altium Limited; PackageDescription: Molded TSSOP, Jedec, 6.5 x 4.4 x 0.9mm Body, 20 Lead, 0.65mm Pitch; RoHS: O; PinCount: 20; DigiKeyPartNumber: LM5034MTC-ND; Code_JEDEC: MO-153-AC; ComponentLink1Description: LM5034 Datasheet; ComponentLink1URL: http://www.national.com/ds/LM/LM5034.pdf; ComponentLink2Description: LM5034 Web Page; ComponentLink2URL: http://www.national.com/pf/LM/LM5034.html; ComponentLink3Description: MTC20 Package Drawing; ComponentLink3URL: http://www.national.com/packaging/folders/mtc20.html
footprint MTC20_N (TSOP, 20-Leads, Body 6.5x4.4mm, Pitch 0.65mm, IPC Medium Density)
footprint MTC20_L (TSOP, 20-Leads, Body 6.5x4.4mm, Pitch 0.65mm, IPC High Density)
footprint MTC20_M (TSOP, 20-Leads, Body 6.5x4.4mm, Pitch 0.65mm, IPC Low Density)
pins: 1 OVLP (in), 2 VIN (power), 3 COMP1, 4 CS1 (in), 5 SS1 (in), 6 ULVO (in), 7 VCC1 (power), 8 OUT1 (out), 9 AC1 (out), 10 GND1 (power), 11 GND2 (power), 12 AC2 (out), 13 OUT2 (out), 14 VCC2 (power), 15 RES (in), 16 SS2 (in), 17 CS2 (in), 18 COMP2, 19 DCL (in), 20 RT/SYNC (in)

## LM5035AMH
designator U?
PWM Controller with Integrated  Half-Bridge and SyncFET Drivers; PartNumber: LM5035AMH; Manufacturer: National Semiconductor; CompType: Switcher; PackageTopMarking: NSUZXYTT*LM5035*AMH; Published: 4-Dec-2008; DatasheetVersion: Jul-2008; PackageVersion: revC, Jul-2006; PackageReference: MXA20A; Publisher: Altium Limited; PackageDescription: Molded TSSOP, Jedec, 6.5 x 4.4 x 0.9mm Body, 20 Lead, 0.65mm Pitch, Exposed Pad; RoHS: Y; PinCount: 20; DigiKeyPartNumber: LM5035AMH-ND; Code_JEDEC: MO-153-ACT; ComponentLink1Description: LM5035A Datasheet; ComponentLink1URL: http://www.national.com/ds/LM/LM5035A.pdf; ComponentLink2Description: LM5035A Web Page; ComponentLink2URL: http://www.national.com/pf/LM/LM5035A.html; ComponentLink3Description: MXA20A Package Drawing; ComponentLink3URL: http://www.national.com/packaging/folders/mxa20a.html
footprint MXA20A_N (TSOP, 20-Leads, Body 6.5x4.4mm, Pitch 0.65mm, Exposed Pad, IPC Medium Density)
footprint MXA20A_L (TSOP, 20-Leads, Body 6.5x4.4mm, Pitch 0.65mm, Exposed Pad, IPC High Density)
footprint MXA20A_M (TSOP, 20-Leads, Body 6.5x4.4mm, Pitch 0.65mm, Exposed Pad, IPC Low Density)
pins: 1 RAMP, 2 UVLO (in), 3 OVP (in), 4 COMP (in), 5 RT (power), 6 AGND (power), 7 CS (in), 8 SS (in), 9 DLY (in), 10 RES, 11 HB (in), 12 HS (in), 13 HO (out), 14 LO (out), 15 PGND (power), 16 VCC (power), 17 SR2 (out), 18 SR1 (out), 19 REF (power), 20 VIN (power), 21 EP (power)

## LM5035ASQ
designator U?
PWM Controller with Integrated  Half-Bridge and SyncFET Drivers; PartNumber: LM5035ASQ; Manufacturer: National Semiconductor; CompType: Switcher; PackageTopMarking: NS*UZXYTT*5035ASQ; Published: 4-Dec-2008; DatasheetVersion: Jul-2008; PackageVersion: revA, Oct-2003; PackageReference: SQA24B; Publisher: Altium Limited; PackageDescription: LLP, Plastic, Quad, 5 x 4 x 0.8mm Body, 24 Lead, 0.5mm Pitch, No Pullback; RoHS: Y; PinCount: 24; DigiKeyPartNumber: LM5035ASQCT-ND; Code_JEDEC: MO-220-WGHD-1; ComponentLink1Description: LM5035A Datasheet; ComponentLink1URL: http://www.national.com/ds/LM/LM5035A.pdf; ComponentLink2Description: LM5035A Web Page; ComponentLink2URL: http://www.national.com/pf/LM/LM5035A.html; ComponentLink3Description: SQA24B Package Drawing; ComponentLink3URL: http://www.national.com/packaging/folders/sqa24b.html
footprint SQA24B (QFN, 24-Leads, Body 5x4mm, Pitch 0.5mm, NSC Recommended)
pins: 1 NC, 2 OVP (in), 3 COMP (in), 4 RT (power), 5 AGND (power), 6 CS (in), 7 SS (in), 8 DLY (in), 9 RES, 10 NC, 11 HB (in), 12 HS (in), 13 HO (out), 14 LO (out), 15 PGND (power), 16 VCC (power), 17 SR2 (out), 18 SR1 (out), 19 REF (power), 20 NC, 21 VIN (power), 22 NC, 23 RAMP, 24 UVLO (in), 25 EP (power)

## LM5035MH
designator U?
PWM Controller with Integrated  Half-Bridge and SyncFET Drivers; PartNumber: LM5035MH; Manufacturer: National Semiconductor; CompType: Switcher; PackageTopMarking: NSUZXYTT*LM5035*MH; Published: 4-Dec-2008; DatasheetVersion: Jul-2008; PackageVersion: revC, Jul-2006; PackageReference: MXA20A; Publisher: Altium Limited; PackageDescription: Molded TSSOP, Jedec, 6.5 x 4.4 x 0.9mm Body, 20 Lead, 0.65mm Pitch, Exposed Pad; RoHS: Y; PinCount: 20; DigiKeyPartNumber: LM5035MH-ND; Code_JEDEC: MO-153-ACT; ComponentLink1Description: LM5035 Datasheet; ComponentLink1URL: http://www.national.com/ds/LM/LM5035.pdf; ComponentLink2Description: LM5035 Web Page; ComponentLink2URL: http://www.national.com/pf/LM/LM5035.html; ComponentLink3Description: MXA20A Package Drawing; ComponentLink3URL: http://www.national.com/packaging/folders/mxa20a.html
footprint MXA20A_N (TSOP, 20-Leads, Body 6.5x4.4mm, Pitch 0.65mm, Exposed Pad, IPC Medium Density)
footprint MXA20A_L (TSOP, 20-Leads, Body 6.5x4.4mm, Pitch 0.65mm, Exposed Pad, IPC High Density)
footprint MXA20A_M (TSOP, 20-Leads, Body 6.5x4.4mm, Pitch 0.65mm, Exposed Pad, IPC Low Density)
pins: 1 RAMP, 2 UVLO (in), 3 OVP (in), 4 COMP (in), 5 RT (power), 6 AGND (power), 7 CS (in), 8 SS (in), 9 DLY (in), 10 RES, 11 HB (in), 12 HS (in), 13 HO (out), 14 LO (out), 15 PGND (power), 16 VCC (power), 17 SR2 (out), 18 SR1 (out), 19 REF (power), 20 VIN (power), 21 EP (power)

## LM5035SQ
designator U?
PWM Controller with Integrated  Half-Bridge and SyncFET Drivers; PartNumber: LM5035SQ; Manufacturer: National Semiconductor; CompType: Switcher; PackageTopMarking: NS*UZXYTT*L5035SQ; Published: 4-Dec-2008; DatasheetVersion: Jul-2008; PackageVersion: revA, Oct-2003; PackageReference: SQA24B; Publisher: Altium Limited; PackageDescription: LLP, Plastic, Quad, 5 x 4 x 0.8mm Body, 24 Lead, 0.5mm Pitch, No Pullback; RoHS: Y; PinCount: 24; DigiKeyPartNumber: LM5035SQCT-ND; Code_JEDEC: MO-220-WGHD-1; ComponentLink1Description: LM5035 Datasheet; ComponentLink1URL: http://www.national.com/ds/LM/LM5035.pdf; ComponentLink2Description: LM5035 Web Page; ComponentLink2URL: http://www.national.com/pf/LM/LM5035.html; ComponentLink3Description: SQA24B Package Drawing; ComponentLink3URL: http://www.national.com/packaging/folders/sqa24b.html
footprint SQA24B (QFN, 24-Leads, Body 5x4mm, Pitch 0.5mm, NSC Recommended)
pins: 1 NC, 2 OVP (in), 3 COMP (in), 4 RT (power), 5 AGND (power), 6 CS (in), 7 SS (in), 8 DLY (in), 9 RES, 10 NC, 11 HB (in), 12 HS (in), 13 HO (out), 14 LO (out), 15 PGND (power), 16 VCC (power), 17 SR2 (out), 18 SR1 (out), 19 REF (power), 20 NC, 21 VIN (power), 22 NC, 23 RAMP, 24 UVLO (in), 25 EP (power)

## LM5037MT
designator U?
Dual-Mode PWM Controller with Alternating Outputs; PartNumber: LM5037MT; Manufacturer: National Semiconductor; CompType: Switcher; PackageTopMarking: NSUZXYTT*LM5037*MT; PowerWise: Y; Published: 29-May-2009; DatasheetVersion: Dec-2008; PackageVersion: revD, Jun-2003; PackageReference: MTC16; Publisher: Altium Limited; PackageDescription: Molded TSSOP, Jedec, 5 x 4.4 x 0.9mm Body, 16 Lead, 0.65mm Pitch; RoHS: Y; PinCount: 16; DigiKeyPartNumber: LM5037MT-ND; Code_JEDEC: MO-153-AB; ComponentLink1Description: LM5037 Datasheet; ComponentLink1URL: http://www.national.com/ds/LM/LM5037.pdf; ComponentLink2Description: LM5037 Web Page; ComponentLink2URL: http://www.national.com/pf/LM/LM5037.html; ComponentLink3Description: MTC16 Package Page; ComponentLink3URL: http://www.national.com/packaging/folders/mtc16.html
footprint MTC16_N (TSOP, 16-Leads, Body 5x4.4mm, Pitch 0.65mm, IPC Medium Density)
footprint MTC16_L (TSOP, 16-Leads, Body 5x4.4mm, Pitch 0.65mm, IPC High Density)
footprint MTC16_M (TSOP, 16-Leads, Body 5x4.4mm, Pitch 0.65mm, IPC Low Density)
pins: 1 RAMP (out), 2 UVLO, 3 COMP, 4 FB, 5 RT2, 6 AGND (power), 7 RT1, 8 CS (in), 9 RES, 10 SS, 11 PGND (power), 12 OUTB (out), 13 OUTA (out), 14 VCC (power), 15 REF, 16 VIN

## LM5041AMTC
designator U?
Cascaded PWM Controller; PartNumber: LM5041AMTC; Manufacturer: National Semiconductor; CompType: Switcher; PackageTopMarking: NSUZXYTT*LM5041A*MTC; Published: 4-Dec-2008; DatasheetVersion: May-2005; PackageVersion: revD, Jun-2003; PackageReference: MTC16; Publisher: Altium Limited; PackageDescription: Molded TSSOP, Jedec, 5 x 4.4 x 0.9mm Body, 16 Lead, 0.65mm Pitch; RoHS: Y; PinCount: 16; DigiKeyPartNumber: LM5041AMTC-ND; Code_JEDEC: MO-153-AB; ComponentLink1Description: LM5041A Datasheet; ComponentLink1URL: http://www.national.com/ds/LM/LM5041A.pdf; ComponentLink2Description: LM5041A Web Page; ComponentLink2URL: http://www.national.com/pf/LM/LM5041A.html; ComponentLink3Description: MTC16 Package Drawing; ComponentLink3URL: http://www.national.com/packaging/folders/mtc16.html
footprint MTC16_N (TSOP, 16-Leads, Body 5x4.4mm, Pitch 0.65mm, IPC Medium Density)
footprint MTC16_L (TSOP, 16-Leads, Body 5x4.4mm, Pitch 0.65mm, IPC High Density)
footprint MTC16_M (TSOP, 16-Leads, Body 5x4.4mm, Pitch 0.65mm, IPC Low Density)
pins: 1 VIN (power), 2 FB (in), 3 COMP, 4 REF (power), 5 HD (out), 6 LD (out), 7 VCC (power), 8 PUSH (out), 9 PULL (out), 10 PGND (power), 11 AGND (power), 12 CS (in), 13 SS, 14 TIME (in), 15 RT/SYNC (in), 16 UVLO (in)

## LM5041ASD
designator U?
Cascaded PWM Controller; PartNumber: LM5041ASD; Manufacturer: National Semiconductor; CompType: Switcher; PackageTopMarking: NS*UZXYTT*5041ASD; Published: 4-Dec-2008; DatasheetVersion: May-2005; PackageVersion: revA, May-2003; PackageReference: SDA16A; Publisher: Altium Limited; PackageDescription: LLP, Plastic, Dual, 5 x 5 x 0.8mm Body,16 Lead, 0.5mm Pitch, No Pullback; RoHS: Y; PinCount: 16; DigiKeyPartNumber: LM5041ASDCT-ND; ComponentLink1Description: LM5041A Datasheet; ComponentLink1URL: http://www.national.com/ds/LM/LM5041A.pdf; ComponentLink2Description: LM5041A Web Page; ComponentLink2URL: http://www.national.com/pf/LM/LM5041A.html; ComponentLink3Description: SDA16A Package Drawing; ComponentLink3URL: http://www.national.com/packaging/folders/sda16a.html
footprint SDA16A (SON, 16-Leads, Body 5x5mm, Pitch 0.5mm, NSC Recommended)
pins: 1 VIN (power), 2 FB (in), 3 COMP, 4 REF (power), 5 HD (out), 6 LD (out), 7 VCC (power), 8 PUSH (out), 9 PULL (out), 10 PGND (power), 11 AGND (power), 12 CS (in), 13 SS, 14 TIME (in), 15 RT/SYNC (in), 16 UVLO (in), 17 DAP (power)

## LM5041BMTC
designator U?
Cascaded PWM Controller; PartNumber: LM5041BMTC; Manufacturer: National Semiconductor; CompType: Switcher; PackageTopMarking: NSUZXYTT*LM5041B*MTC; PowerWise: N; Published: 29-May-2009; DatasheetVersion: May-2009; PackageVersion: revD, Jun-2003; PackageReference: MTC16; Publisher: Altium Limited; PackageDescription: Molded TSSOP, Jedec, 5 x 4.4 x 0.9mm Body, 16 Lead, 0.65mm Pitch; RoHS: Y; PinCount: 16; Code_JEDEC: MO-153-AB; ComponentLink1Description: LM5041 Datasheet; ComponentLink1URL: http://www.national.com/ds/LM/LM5041B.pdf; ComponentLink2Description: LM5041 Web Page; ComponentLink2URL: http://www.national.com/pf/LM/LM5041.html; ComponentLink3Description: MTC16 Package Page; ComponentLink3URL: http://www.national.com/packaging/folders/mtc16.html
footprint MTC16_N (TSOP, 16-Leads, Body 5x4.4mm, Pitch 0.65mm, IPC Medium Density)
footprint MTC16_L (TSOP, 16-Leads, Body 5x4.4mm, Pitch 0.65mm, IPC High Density)
footprint MTC16_M (TSOP, 16-Leads, Body 5x4.4mm, Pitch 0.65mm, IPC Low Density)
pins: 1 VIN (power), 2 FB (in), 3 COMP, 4 REF (power), 5 HD (out), 6 LD (out), 7 VCC (power), 8 PUSH (out), 9 PULL (out), 10 PGND (power), 11 AGND (power), 12 CS (in), 13 SS, 14 TIME (in), 15 RT (in), 16 UVLO (in)

## LM5041MTC
designator U?
Cascaded PWM Controller; PartNumber: LM5041MTC; Manufacturer: National Semiconductor; CompType: Switcher; PackageTopMarking: NSZXYTT*LM5041*MTC; Published: 4-Dec-2008; DatasheetVersion: Apr-2004; PackageVersion: revD, Jun-2003; PackageReference: MTC16; Publisher: Altium Limited; PackageDescription: Molded TSSOP, Jedec, 5 x 4.4 x 0.9mm Body, 16 Lead, 0.65mm Pitch; RoHS: Y; PinCount: 16; DigiKeyPartNumber: LM5041MTC-ND; Code_JEDEC: MO-153-AB; ComponentLink1Description: LM5041 Datasheet; ComponentLink1URL: http://www.national.com/ds/LM/LM5041.pdf; ComponentLink2Description: LM5041 Web Page; ComponentLink2URL: http://www.national.com/pf/LM/LM5041.html; ComponentLink3Description: MTC16 Package Drawing; ComponentLink3URL: http://www.national.com/packaging/folders/mtc16.html
footprint MTC16_N (TSOP, 16-Leads, Body 5x4.4mm, Pitch 0.65mm, IPC Medium Density)
footprint MTC16_L (TSOP, 16-Leads, Body 5x4.4mm, Pitch 0.65mm, IPC High Density)
footprint MTC16_M (TSOP, 16-Leads, Body 5x4.4mm, Pitch 0.65mm, IPC Low Density)
pins: 1 VIN (power), 2 FB (in), 3 COMP, 4 REF (power), 5 HD (out), 6 LD (out), 7 VCC (power), 8 PUSH (out), 9 PULL (out), 10 PGND (power), 11 AGND (power), 12 CS (in), 13 SS, 14 TIME (in), 15 RT/SYNC (in), 16 UVLO (in)

## LM5041SD
designator U?
Cascaded PWM Controller; PartNumber: LM5041SD; Manufacturer: National Semiconductor; CompType: Switcher; PackageTopMarking: NS*UZXYTT*5041SD; Published: 4-Dec-2008; DatasheetVersion: Apr-2004; PackageVersion: revA, May-2003; PackageReference: SDA16A; Publisher: Altium Limited; PackageDescription: LLP, Plastic, Dual, 5 x 5 x 0.8mm Body,16 Lead, 0.5mm Pitch, No Pullback; RoHS: O; PinCount: 16; DigiKeyPartNumber: LM5041SDCT-ND; ComponentLink1Description: LM5041 Datasheet; ComponentLink1URL: http://www.national.com/ds/LM/LM5041.pdf; ComponentLink2Description: LM5041 Web Page; ComponentLink2URL: http://www.national.com/pf/LM/LM5041.html; ComponentLink3Description: SDA16A Package Drawing; ComponentLink3URL: http://www.national.com/packaging/folders/sda16a.html
footprint SDA16A (SON, 16-Leads, Body 5x5mm, Pitch 0.5mm, NSC Recommended)
pins: 1 VIN (power), 2 FB (in), 3 COMP, 4 REF (power), 5 HD (out), 6 LD (out), 7 VCC (power), 8 PUSH (out), 9 PULL (out), 10 PGND (power), 11 AGND (power), 12 CS (in), 13 SS, 14 TIME (in), 15 RT/SYNC (in), 16 UVLO (in), 17 DAP (power)

## LM5067MM-1
designator U?
Negative Hot Swap / Inrush Current Controller with Power Limiting; PartNumber: LM5067MM-1; Manufacturer: National Semiconductor; CompType: Switcher; PackageTopMarking: ZXTT*SRUB; Published: 4-Dec-2008; DatasheetVersion: Mar-2008; PackageVersion: revB, Jul-2003; PackageReference: MUB10A; Publisher: Altium Limited; PackageDescription: Mini-SO, Molded, .118 x .118 x .034in Body, 10 Lead, .0197in Pitch; RoHS: Y; PinCount: 10; DigiKeyPartNumber: LM5067MM-1CT-ND; Code_JEDEC: MO-187-BA; ComponentLink1Description: LM5067 Datasheet; ComponentLink1URL: http://www.national.com/ds/LM/LM5067.pdf; ComponentLink2Description: LM5067 Web Page; ComponentLink2URL: http://www.national.com/pf/LM/LM5067.html; ComponentLink3Description: MUB10A Package Drawing; ComponentLink3URL: http://www.national.com/packaging/folders/mub10a.html
footprint MUB10A_N (TSSOP, 10-Leads, Body 3x3mm, Pitch 0.5mm, IPC Medium Density)
footprint MUB10A_L (TSSOP, 10-Leads, Body 3x3mm, Pitch 0.5mm, IPC High Density)
footprint MUB10A_M (TSSOP, 10-Leads, Body 3x3mm, Pitch 0.5mm, IPC Low Density)
pins: 1 VCC (power), 2 UVLO/EN (in), 3 OVLO (in), 4 PWR (in), 5 VEE (power), 6 TIMER (in), 7 SEN (in), 8 GATE (out), 9 OUT (out), 10 PGD (oc)

## LM5067MM-2
designator U?
Negative Hot Swap / Inrush Current Controller with Power Limiting; PartNumber: LM5067MM-2; Manufacturer: National Semiconductor; CompType: Switcher; PackageTopMarking: ZXTT*SRVB; Published: 4-Dec-2008; DatasheetVersion: Mar-2008; PackageVersion: revB, Jul-2003; PackageReference: MUB10A; Publisher: Altium Limited; PackageDescription: Mini-SO, Molded, .118 x .118 x .034in Body, 10 Lead, .0197in Pitch; RoHS: Y; PinCount: 10; DigiKeyPartNumber: LM5067MM-2CT-ND; Code_JEDEC: MO-187-BA; ComponentLink1Description: LM5067 Datasheet; ComponentLink1URL: http://www.national.com/ds/LM/LM5067.pdf; ComponentLink2Description: LM5067 Web Page; ComponentLink2URL: http://www.national.com/pf/LM/LM5067.html; ComponentLink3Description: MUB10A Package Drawing; ComponentLink3URL: http://www.national.com/packaging/folders/mub10a.html
footprint MUB10A_N (TSSOP, 10-Leads, Body 3x3mm, Pitch 0.5mm, IPC Medium Density)
footprint MUB10A_L (TSSOP, 10-Leads, Body 3x3mm, Pitch 0.5mm, IPC High Density)
footprint MUB10A_M (TSSOP, 10-Leads, Body 3x3mm, Pitch 0.5mm, IPC Low Density)
pins: 1 VCC (power), 2 UVLO/EN (in), 3 OVLO (in), 4 PWR (in), 5 VEE (power), 6 TIMER (in), 7 SEN (in), 8 GATE (out), 9 OUT (out), 10 PGD (oc)